# Altium footprint library Maxim Footprints.PcbLib: 105 footprints (part 7 of 7)
Each footprint in its own frame and in the unit in brackets; x right, y up, seen from the top. Pads: shape width x height; smd on the part's side, far side on the other; paste and mask are expansions set on the pad; w line width, h text height; cw(c..) or ccw(c..) is an arc to the next point about the centre after c.
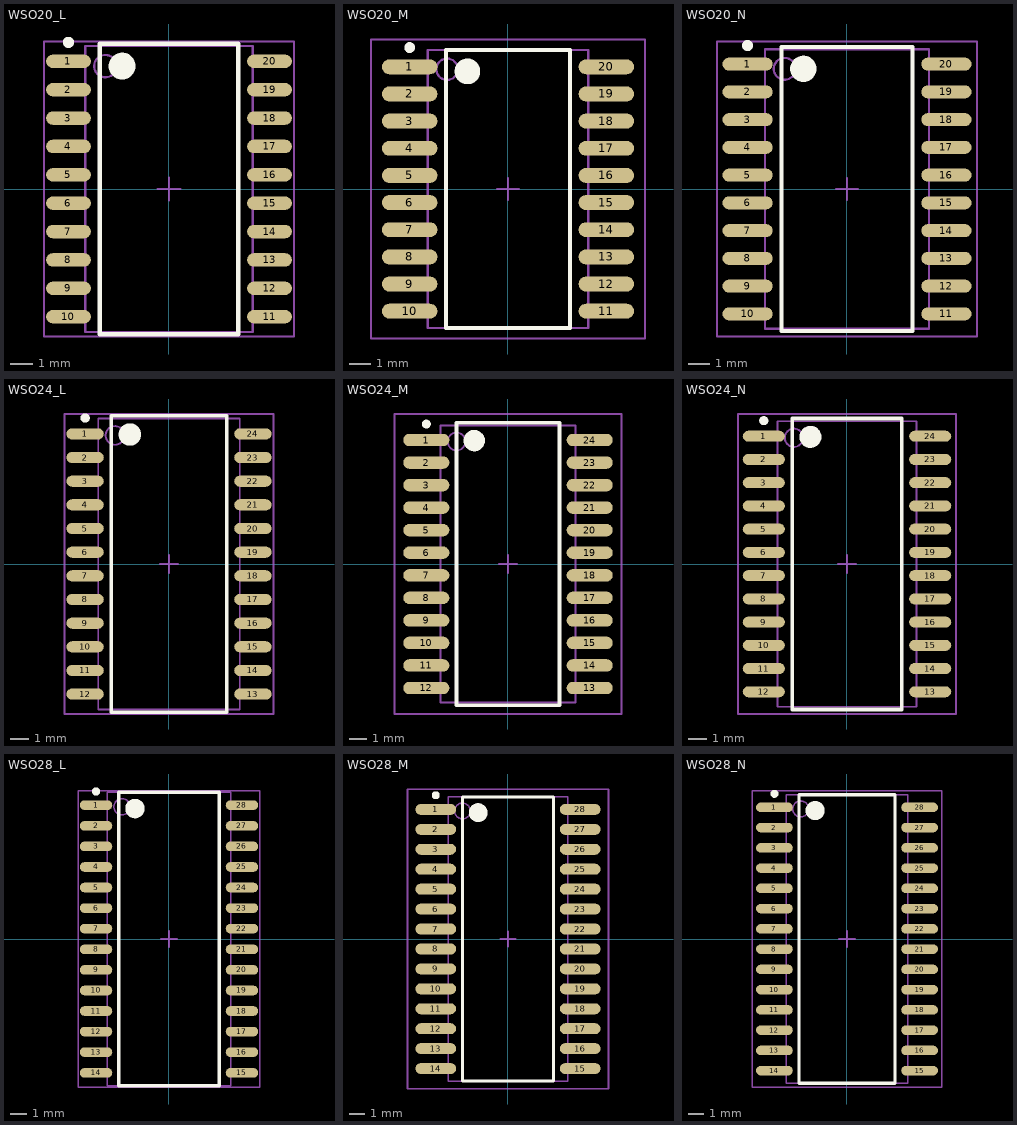
[diagram p6: the footprints below, top view; thin cyan lines are the x and y axes]

## WSO20_L [mm] "20-Pin Small Outline Integrated Circuit 1.27 mm Pitch, IPC High Density"
height 2.65
pads (20):
  oval 2x0.6 smd: 1(-4.5,5.715) 2(-4.5,4.445) 3(-4.5,3.175) 4(-4.5,1.905) 5(-4.5,0.635) 6(-4.5,-0.635) 7(-4.5,-1.905) 8(-4.5,-3.175) 9(-4.5,-4.445) 10(-4.5,-5.715) 11(4.5,-5.715) 12(4.5,-4.445) 13(4.5,-3.175) 14(4.5,-1.905) 15(4.5,-0.635) 16(4.5,0.635) 17(4.5,1.905) 18(4.5,3.175) 19(4.5,4.445) 20(4.5,5.715)
Top Overlay:
  circle w0.25: c-4.5,6.565 r0.125
  circle w0.6: c-2.1,5.5 r0.3
  lines w0.2: -3.1,-6.5 -3.1,6.5 3.1,6.5 3.1,-6.5 -3.1,-6.5
Mechanical 13:
  circle w0.1: c-2.85,5.5 r0.5
  lines w0.1: -3.75,-6.4 -3.75,6.4 3.75,6.4 3.75,-6.4 -3.75,-6.4
Mechanical 15:
  lines w0.1: -0.5,0 0.5,0 ; 0,-0.5 0,0.5 ; -5.6,-6.6 -5.6,6.6 5.6,6.6 5.6,-6.6 -5.6,-6.6
3D body: height 2.65, standoff 0, extent -3.75,-6.4 3.75,6.4

## WSO20_M [mm] "20-Pin Small Outline Integrated Circuit 1.27 mm Pitch, IPC Low Density"
height 2.65
pads (20):
  oval 2.6x0.7 smd: 1(-4.6,5.715) 2(-4.6,4.445) 3(-4.6,3.175) 4(-4.6,1.905) 5(-4.6,0.635) 6(-4.6,-0.635) 7(-4.6,-1.905) 8(-4.6,-3.175) 9(-4.6,-4.445) 10(-4.6,-5.715) 11(4.6,-5.715) 12(4.6,-4.445) 13(4.6,-3.175) 14(4.6,-1.905) 15(4.6,-0.635) 16(4.6,0.635) 17(4.6,1.905) 18(4.6,3.175) 19(4.6,4.445) 20(4.6,5.715)
Top Overlay:
  circle w0.25: c-4.6,6.615 r0.125
  circle w0.6: c-1.9,5.5 r0.3
  lines w0.2: -2.9,-6.5 -2.9,6.5 2.9,6.5 2.9,-6.5 -2.9,-6.5
Mechanical 13:
  circle w0.1: c-2.85,5.6 r0.5
  lines w0.1: -3.75,-6.5 -3.75,6.5 3.75,6.5 3.75,-6.5 -3.75,-6.5
Mechanical 15:
  lines w0.1: -0.5,0 0.5,0 ; 0,-0.5 0,0.5 ; -6.4,-7 -6.4,7 6.4,7 6.4,-7 -6.4,-7
3D body: height 2.65, standoff 0, extent -3.75,-6.5 3.75,6.5

## WSO20_N [mm] "20-Pin Small Outline Integrated Circuit 1.27 mm Pitch, IPC Medium Density"
height 2.65
pads (20):
  oval 2.3x0.6 smd: 1(-4.55,5.715) 2(-4.55,4.445) 3(-4.55,3.175) 4(-4.55,1.905) 5(-4.55,0.635) 6(-4.55,-0.635) 7(-4.55,-1.905) 8(-4.55,-3.175) 9(-4.55,-4.445) 10(-4.55,-5.715) 11(4.55,-5.715) 12(4.55,-4.445) 13(4.55,-3.175) 14(4.55,-1.905) 15(4.55,-0.635) 16(4.55,0.635) 17(4.55,1.905) 18(4.55,3.175) 19(4.55,4.445) 20(4.55,5.715)
Top Overlay:
  circle w0.25: c-4.55,6.565 r0.125
  circle w0.6: c-2,5.5 r0.3
  lines w0.2: -3,-6.5 -3,6.5 3,6.5 3,-6.5 -3,-6.5
Mechanical 13:
  circle w0.1: c-2.85,5.5 r0.5
  lines w0.1: -3.75,-6.4 -3.75,6.4 3.75,6.4 3.75,-6.4 -3.75,-6.4
Mechanical 15:
  lines w0.1: -0.5,0 0.5,0 ; 0,-0.5 0,0.5 ; -5.95,-6.75 -5.95,6.75 5.95,6.75 5.95,-6.75 -5.95,-6.75
3D body: height 2.65, standoff 0, extent -3.75,-6.4 3.75,6.4

## WSO24_L [mm] "24-Pin Small Outline Integrated Circuit 1.27 mm Pitch, IPC High Density"
height 2.65
pads (24):
  oval 2x0.6 smd: 1(-4.5,6.985) 2(-4.5,5.715) 3(-4.5,4.445) 4(-4.5,3.175) 5(-4.5,1.905) 6(-4.5,0.635) 7(-4.5,-0.635) 8(-4.5,-1.905) 9(-4.5,-3.175) 10(-4.5,-4.445) 11(-4.5,-5.715) 12(-4.5,-6.985) 13(4.5,-6.985) 14(4.5,-5.715) 15(4.5,-4.445) 16(4.5,-3.175) 17(4.5,-1.905) 18(4.5,-0.635) 19(4.5,0.635) 20(4.5,1.905) 21(4.5,3.175) 22(4.5,4.445) 23(4.5,5.715) 24(4.5,6.985)
Top Overlay:
  circle w0.25: c-4.5,7.835 r0.125
  circle w0.6: c-2.1,6.95 r0.3
  lines w0.2: -3.1,-7.95 -3.1,7.95 3.1,7.95 3.1,-7.95 -3.1,-7.95
Mechanical 13:
  circle w0.1: c-2.9,6.9 r0.5
  lines w0.1: -3.8,-7.8 -3.8,7.8 3.8,7.8 3.8,-7.8 -3.8,-7.8
Mechanical 15:
  lines w0.1: -0.5,0 0.5,0 ; 0,-0.5 0,0.5 ; -5.6,-8.05 -5.6,8.05 5.6,8.05 5.6,-8.05 -5.6,-8.05
3D body: height 2.65, standoff 0, extent -3.8,-7.8 3.8,7.8

## WSO24_M [mm] "24-Pin Small Outline Integrated Circuit 1.27 mm Pitch, IPC Low Density"
height 2.65
pads (24):
  oval 2.6x0.7 smd: 1(-4.6,6.985) 2(-4.6,5.715) 3(-4.6,4.445) 4(-4.6,3.175) 5(-4.6,1.905) 6(-4.6,0.635) 7(-4.6,-0.635) 8(-4.6,-1.905) 9(-4.6,-3.175) 10(-4.6,-4.445) 11(-4.6,-5.715) 12(-4.6,-6.985) 13(4.6,-6.985) 14(4.6,-5.715) 15(4.6,-4.445) 16(4.6,-3.175) 17(4.6,-1.905) 18(4.6,-0.635) 19(4.6,0.635) 20(4.6,1.905) 21(4.6,3.175) 22(4.6,4.445) 23(4.6,5.715) 24(4.6,6.985)
Top Overlay:
  circle w0.25: c-4.6,7.885 r0.125
  circle w0.6: c-1.9,6.95 r0.3
  lines w0.2: -2.9,-7.95 -2.9,7.95 2.9,7.95 2.9,-7.95 -2.9,-7.95
Mechanical 13:
  circle w0.1: c-2.9,6.9 r0.5
  lines w0.1: -3.8,-7.8 -3.8,7.8 3.8,7.8 3.8,-7.8 -3.8,-7.8
Mechanical 15:
  lines w0.1: -0.5,0 0.5,0 ; 0,-0.5 0,0.5 ; -6.4,-8.45 -6.4,8.45 6.4,8.45 6.4,-8.45 -6.4,-8.45
3D body: height 2.65, standoff 0, extent -3.8,-7.8 3.8,7.8

## WSO24_N [mm] "24-Pin Small Outline Integrated Circuit 1.27 mm Pitch, IPC Medium Density"
height 2.65
pads (24):
  oval 2.3x0.6 smd: 1(-4.55,6.985) 2(-4.55,5.715) 3(-4.55,4.445) 4(-4.55,3.175) 5(-4.55,1.905) 6(-4.55,0.635) 7(-4.55,-0.635) 8(-4.55,-1.905) 9(-4.55,-3.175) 10(-4.55,-4.445) 11(-4.55,-5.715) 12(-4.55,-6.985) 13(4.55,-6.985) 14(4.55,-5.715) 15(4.55,-4.445) 16(4.55,-3.175) 17(4.55,-1.905) 18(4.55,-0.635) 19(4.55,0.635) 20(4.55,1.905) 21(4.55,3.175) 22(4.55,4.445) 23(4.55,5.715) 24(4.55,6.985)
Top Overlay:
  circle w0.25: c-4.55,7.835 r0.125
  circle w0.6: c-2,6.95 r0.3
  lines w0.2: -3,-7.95 -3,7.95 3,7.95 3,-7.95 -3,-7.95
Mechanical 13:
  circle w0.1: c-2.9,6.9 r0.5
  lines w0.1: -3.8,-7.8 -3.8,7.8 3.8,7.8 3.8,-7.8 -3.8,-7.8
Mechanical 15:
  lines w0.1: -0.5,0 0.5,0 ; 0,-0.5 0,0.5 ; -5.95,-8.2 -5.95,8.2 5.95,8.2 5.95,-8.2 -5.95,-8.2
3D body: height 2.65, standoff 0, extent -3.8,-7.8 3.8,7.8

## WSO28_L [mm] "28-Pin Small Outline Integrated Circuit 1.27 mm Pitch, IPC High Density"
height 2.65
pads (28):
  oval 2x0.6 smd: 1(-4.5,8.255) 2(-4.5,6.985) 3(-4.5,5.715) 4(-4.5,4.445) 5(-4.5,3.175) 6(-4.5,1.905) 7(-4.5,0.635) 8(-4.5,-0.635) 9(-4.5,-1.905) 10(-4.5,-3.175) 11(-4.5,-4.445) 12(-4.5,-5.715) 13(-4.5,-6.985) 14(-4.5,-8.255) 15(4.5,-8.255) 16(4.5,-6.985) 17(4.5,-5.715) 18(4.5,-4.445) 19(4.5,-3.175) 20(4.5,-1.905) 21(4.5,-0.635) 22(4.5,0.635) 23(4.5,1.905) 24(4.5,3.175) 25(4.5,4.445) 26(4.5,5.715) 27(4.5,6.985) 28(4.5,8.255)
Top Overlay:
  circle w0.25: c-4.5,9.105 r0.125
  circle w0.6: c-2.1,8.05 r0.3
  lines w0.2: -3.1,-9.05 -3.1,9.05 3.1,9.05 3.1,-9.05 -3.1,-9.05
Mechanical 13:
  circle w0.1: c-2.9,8.155 r0.5
  lines w0.1: -3.8,-9.055 -3.8,9.055 3.8,9.055 3.8,-9.055 -3.8,-9.055
Mechanical 15:
  lines w0.1: -0.5,0 0.5,0 ; 0,-0.5 0,0.5 ; -5.6,-9.15 -5.6,9.15 5.6,9.15 5.6,-9.15 -5.6,-9.15
3D body: height 2.65, standoff 0, extent -3.8,-9.055 3.8,9.055

## WSO28_M [mm] "28-Pin Small Outline Integrated Circuit 1.27 mm Pitch, IPC Low Density"
height 2.65
pads (28):
  oval 2.6x0.7 smd: 1(-4.6,8.255) 2(-4.6,6.985) 3(-4.6,5.715) 4(-4.6,4.445) 5(-4.6,3.175) 6(-4.6,1.905) 7(-4.6,0.635) 8(-4.6,-0.635) 9(-4.6,-1.905) 10(-4.6,-3.175) 11(-4.6,-4.445) 12(-4.6,-5.715) 13(-4.6,-6.985) 14(-4.6,-8.255) 15(4.6,-8.255) 16(4.6,-6.985) 17(4.6,-5.715) 18(4.6,-4.445) 19(4.6,-3.175) 20(4.6,-1.905) 21(4.6,-0.635) 22(4.6,0.635) 23(4.6,1.905) 24(4.6,3.175) 25(4.6,4.445) 26(4.6,5.715) 27(4.6,6.985) 28(4.6,8.255)
Top Overlay:
  circle w0.25: c-4.6,9.155 r0.125
  circle w0.6: c-1.9,8.05 r0.3
  lines w0.2: -2.9,-9.05 -2.9,9.05 2.9,9.05 2.9,-9.05 -2.9,-9.05
Mechanical 13:
  circle w0.1: c-2.9,8.155 r0.5
  lines w0.1: -3.8,-9.055 -3.8,9.055 3.8,9.055 3.8,-9.055 -3.8,-9.055
Mechanical 15:
  lines w0.1: -0.5,0 0.5,0 ; 0,-0.5 0,0.5 ; -6.4,-9.55 -6.4,9.55 6.4,9.55 6.4,-9.55 -6.4,-9.55
3D body: height 2.65, standoff 0, extent -3.8,-9.055 3.8,9.055

## WSO28_N [mm] "28-Pin Small Outline Integrated Circuit 1.27 mm Pitch, IPC Medium Density"
height 2.65
pads (28):
  oval 2.3x0.6 smd: 1(-4.55,8.255) 2(-4.55,6.985) 3(-4.55,5.715) 4(-4.55,4.445) 5(-4.55,3.175) 6(-4.55,1.905) 7(-4.55,0.635) 8(-4.55,-0.635) 9(-4.55,-1.905) 10(-4.55,-3.175) 11(-4.55,-4.445) 12(-4.55,-5.715) 13(-4.55,-6.985) 14(-4.55,-8.255) 15(4.55,-8.255) 16(4.55,-6.985) 17(4.55,-5.715) 18(4.55,-4.445) 19(4.55,-3.175) 20(4.55,-1.905) 21(4.55,-0.635) 22(4.55,0.635) 23(4.55,1.905) 24(4.55,3.175) 25(4.55,4.445) 26(4.55,5.715) 27(4.55,6.985) 28(4.55,8.255)
Top Overlay:
  circle w0.25: c-4.55,9.105 r0.125
  circle w0.6: c-2,8.05 r0.3
  lines w0.2: -3,-9.05 -3,9.05 3,9.05 3,-9.05 -3,-9.05
Mechanical 13:
  circle w0.1: c-2.9,8.155 r0.5
  lines w0.1: -3.8,-9.055 -3.8,9.055 3.8,9.055 3.8,-9.055 -3.8,-9.055
Mechanical 15:
  lines w0.1: -0.5,0 0.5,0 ; 0,-0.5 0,0.5 ; -5.95,-9.3 -5.95,9.3 5.95,9.3 5.95,-9.3 -5.95,-9.3
3D body: height 2.65, standoff 0, extent -3.8,-9.055 3.8,9.055